# Altium schematic symbol library RES-SM-0603-1K.Schlib: 1 symbol
Pins are listed as number, name and electrical type; pins without a type are passive.

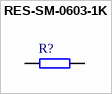
[diagram p0: symbol RES-SM-0603-1K]

## RES-SM-0603-1K
designator R?, comment Resistor  (value not drawn)
RES SM 0603 1K
pins: 1, 2